# Altium schematic symbol library TPS7A3001.Schlib: 1 symbol
Pins are listed as number, name and electrical type; pins without a type are passive.

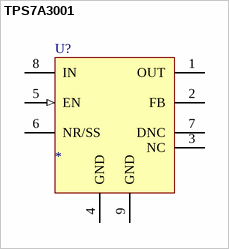
[diagram p0: symbol TPS7A3001]

## TPS7A3001
designator U?
pins: 1 OUT (power), 2 FB, 3 NC, 4 GND (power), 5 EN (in), 6 NR/SS, 7 DNC, 8 IN (power), 9 GND (power)